# EAGLE library part LOLIN (library NodeMCU LOLIN)
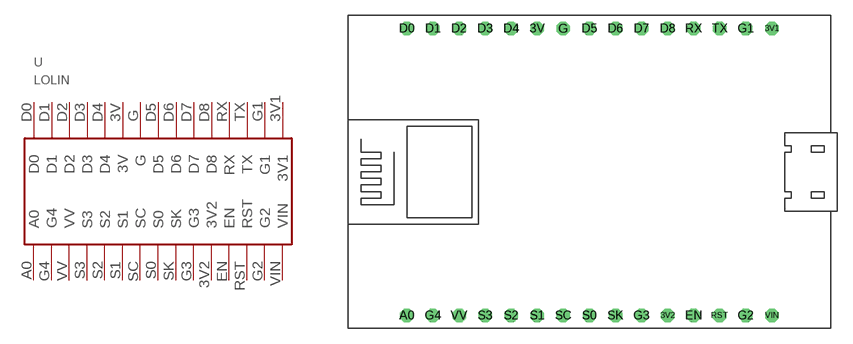
[diagram p0: symbol with the pads of LOLIN; footprint LOLIN]

Designator prefix -

## LOLIN  [LOLIN]
3V  3V
3V1  3V1
3V2  3V2
A0  A0
D0  D0
D1  D1
D2  D2
D3  D3
D4  D4
D5  D5
D6  D6
D7  D7
D8  D8
EN  EN
G  G
G1  G1
G2  G2
G3  G3
G4  G4
RST  RST
RX  RX
S0  S0
S1  S1
S2  S2
S3  S3
SC  SC
SK  SK
TX  TX
VIN  VIN
VV  VV

## Footprint LOLIN (pad centres in mm)
drill 0.8 octagon: 3V -6.35,13.97; 3V1 16.51,13.97; 3V2 6.35,-13.97; A0 -19.05,-13.97; D0 -19.05,13.97; D1 -16.51,13.97; D2 -13.97,13.97; D3 -11.43,13.97; D4 -8.89,13.97; D5 -1.27,13.97; D6 1.27,13.97; D7 3.81,13.97; D8 6.35,13.97; EN 8.89,-13.97; G -3.81,13.97; G1 13.97,13.97; G2 13.97,-13.97; G3 3.81,-13.97; G4 -16.51,-13.97; RST 11.43,-13.97; RX 8.89,13.97; S0 -1.27,-13.97; S1 -6.35,-13.97; S2 -8.89,-13.97; S3 -11.43,-13.97; SC -3.81,-13.97; SK 1.27,-13.97; TX 11.43,13.97; VIN 16.51,-13.97; VV -13.97,-13.97